# Altium integrated library Linear Technology Power Management Switching Regulator LTC1174-LTC3901.IntLib: 2647 symbols (part 87 of 364)
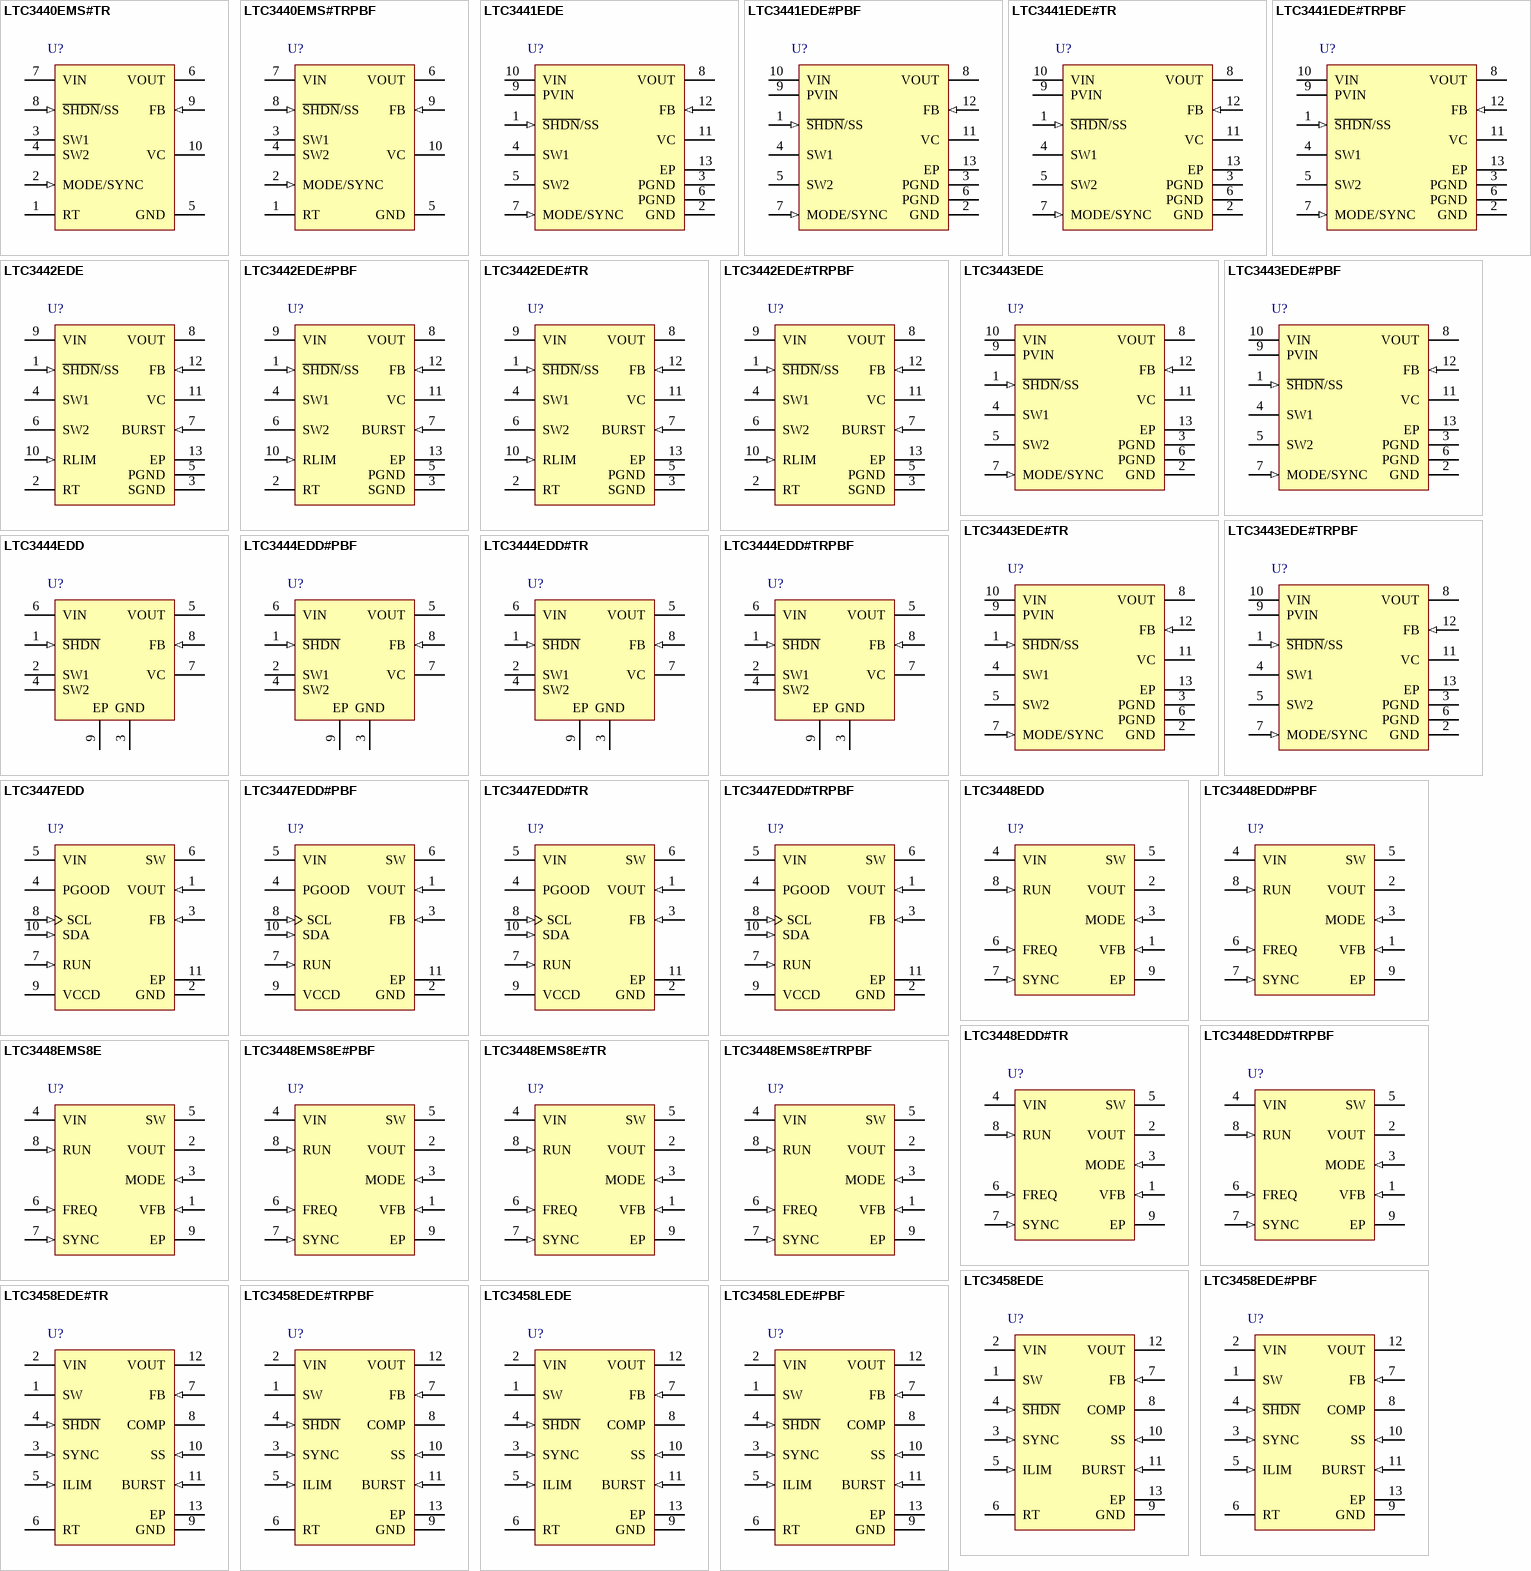
[diagram p259: symbols LTC3440EMS#TR to LTC3458LEDE#PBF]

## LTC3444EDD#TR
designator U?
Micropower Synchronous Buck-Boost DC/DC Converter for WCDMA Application, 8-pin SON (DD-8), -40 to 85 degC, Tape and Reel; Manufacturer: Linear Technology; PartNumber: LTC3444EDD#TR; Number of Outputs: 1; DatasheetVersion: Rev. B; PackageVersion: Jun-10; PackageReference: DD-8; PackageDescription: 8-Pin Plastic DFN, Body 3 x 3 mm, Pitch 0.5 mm; Packing: Tape and Reel; RoHS: FALSE; Mounting Technology: Surface Mount; Code_JEDEC: MO-229; ComponentLink1Description: Manufacturer URL; ComponentLink1URL: http://www.linear.com/; ComponentLink2Description: Datasheet; ComponentLink2URL: http://cds.linear.com/docs/en/datasheet/3444fb.pdf; ComponentLink3Description: Package Specification; ComponentLink3URL: http://cds.linear.com/docs/en/packaging/DFN_8_05-08-1698.pdf
footprint LT-DD-8_V (SON, 8-Leads, Body 3x3mm, Pitch 0.5mm, Thermal Pad 1.65x2.38 mm)
pins: 1 ~{SHDN} (in) "Shutdown Function. A logic low input shuts down the IC. A logic high input enables the IC and starts the internal soft-start function by limiting the rise time of the internal PWM command.", 2 SW1 "Switch Pin Where the Internal Switches A and B are Connected. Connect inductor from SW1 to SW2. An optional Schottky diode can be connected from ground to SW1 for a moderate efficiency improvement. Minimize trace length to (See Datasheet)", 3 GND (power) "Ground Pin for the IC.", 4 SW2 "Switch Pin Where the Internal Switches C and D are Connected. An optional Schottky diode can be connected from SW2 to VOUT for a moderate efficiency improvement. Minimize trace length to keep EMI down.", 5 VOUT (power) "Output of the Synchronous Rectifier. A filter capacitor is placed from VOUT to GND. A ceramic bypass capacitor is recommended as close to the VOUT and GND pins as possible.", 6 VIN (power) "Input Supply Pin. Internal VCC for the IC. A 4.7uF ceramic capacitor is recommended as close to VIN and GND as possible.", 7 VC "Error Amp Output. Pull VC to ground to select internal loop compensation. External compensation may be connected from VC to FB. Internal compensation will be disabled if VC is tied to an external compensation network.", 8 FB (in) "Feedback Pin. Connect resistive divider tap here. The output voltage can be adjusted from 0.5V to 5V. The feedback reference voltage is typically 1.22V.", 9 EP (power) "Solder to Board GND."

## LTC3444EDD#TRPBF
designator U?
Micropower Synchronous Buck-Boost DC/DC Converter for WCDMA Application, 8-pin SON (DD-8), -40 to 85 degC, Pb-Free, Tape and Reel; Manufacturer: Linear Technology; PartNumber: LTC3444EDD#TRPBF; Number of Outputs: 1; DatasheetVersion: Rev. B; PackageVersion: Jun-10; PackageReference: DD-8; PackageDescription: 8-Pin Plastic DFN, Body 3 x 3 mm, Pitch 0.5 mm; Supplier 1: Digi-Key; Supplier Part Number 1: LTC3444EDD#TRPBF-ND; Packing: Tape and Reel; RoHS: TRUE; Mounting Technology: Surface Mount; Code_JEDEC: MO-229; ComponentLink1Description: Manufacturer URL; ComponentLink1URL: http://www.linear.com/; ComponentLink2Description: Datasheet; ComponentLink2URL: http://cds.linear.com/docs/en/datasheet/3444fb.pdf; ComponentLink3Description: Package Specification; ComponentLink3URL: http://cds.linear.com/docs/en/packaging/DFN_8_05-08-1698.pdf
footprint LT-DD-8_V (SON, 8-Leads, Body 3x3mm, Pitch 0.5mm, Thermal Pad 1.65x2.38 mm)
pins: 1 ~{SHDN} (in) "Shutdown Function. A logic low input shuts down the IC. A logic high input enables the IC and starts the internal soft-start function by limiting the rise time of the internal PWM command.", 2 SW1 "Switch Pin Where the Internal Switches A and B are Connected. Connect inductor from SW1 to SW2. An optional Schottky diode can be connected from ground to SW1 for a moderate efficiency improvement. Minimize trace length to (See Datasheet)", 3 GND (power) "Ground Pin for the IC.", 4 SW2 "Switch Pin Where the Internal Switches C and D are Connected. An optional Schottky diode can be connected from SW2 to VOUT for a moderate efficiency improvement. Minimize trace length to keep EMI down.", 5 VOUT (power) "Output of the Synchronous Rectifier. A filter capacitor is placed from VOUT to GND. A ceramic bypass capacitor is recommended as close to the VOUT and GND pins as possible.", 6 VIN (power) "Input Supply Pin. Internal VCC for the IC. A 4.7uF ceramic capacitor is recommended as close to VIN and GND as possible.", 7 VC "Error Amp Output. Pull VC to ground to select internal loop compensation. External compensation may be connected from VC to FB. Internal compensation will be disabled if VC is tied to an external compensation network.", 8 FB (in) "Feedback Pin. Connect resistive divider tap here. The output voltage can be adjusted from 0.5V to 5V. The feedback reference voltage is typically 1.22V.", 9 EP (power) "Solder to Board GND."

## LTC3447EDD
designator U?
I2C Controllable Buck Regulator, 10-pin SON (DD-10), -40 to 85 degC; Manufacturer: Linear Technology; PartNumber: LTC3447EDD; Number of Outputs: 1; PackageVersion: Rev. C, 06/2010; PackageReference: DD-10; PackageDescription: 10-Pin Plastic DFN, Body 3 x 3 mm, Pitch 0.5 mm; Supplier 1: Digi-Key; Supplier Part Number 1: LTC3447EDD-ND; RoHS: FALSE; Mounting Technology: Surface Mount; Code_JEDEC: MO-229; ComponentLink1Description: Manufacturer URL; ComponentLink1URL: http://www.linear.com/; ComponentLink2Description: Datasheet; ComponentLink2URL: http://cds.linear.com/docs/en/datasheet/3447f.pdf; ComponentLink3Description: Package Specification; ComponentLink3URL: http://cds.linear.com/docs/en/packaging/DFN_10_05-08-1699.pdf
footprint LT-DD-10_V (SON, 10-Leads, Body 3x3mm, Pitch 0.5mm, Thermal Pad 2.38x1.65mm)
pins: 1 VOUT (in) "Output Voltage Sensing Pin. An internal resistor divider provides the divided down feedback reference for comparison.", 2 GND (power) "Ground for all Circuits Excluding the Internal Synchronous Power NFET.", 3 FB (in) "Feedback Sensing Pin for the Optional External Feedback Resistors. Must be tied to VIN if there are no external feedback resistors.", 4 PGOOD (oc) "Fault Report. Open drain driver sinks current when VOUT is 10% out of tolerance. Blanking during DAC changes can be enabled via the I2C.", 5 VIN (power) "Main Supply Pin. Must be closely decoupled to GND with a 2.2uF or greater capacitor.", 6 SW (power) "Switch Node Connector to Inductor. This pin connects the drains of the internal main and synchronous power MOSFET switches.", 7 RUN (in) "Run Control Input. Forcing pin above 1.5V enables the part. Forcing the pin below 0.3V shuts down the device. In shutdown, all functions are disabled drawing <1uA of supply current. Do not leave the RUN pin floating.", 8 SCL (in) "I2C Clock Input.", 9 VCCD (power) "I2C Power Rail.", 10 SDA (in) "I2C Data Input.", 11 EP (power) "Ground. Must be connected to PCB ground for electrical contact and optimized thermal performance."

## LTC3447EDD#PBF
designator U?
I2C Controllable Buck Regulator, 10-pin SON (DD-10), -40 to 85 degC, Pb-Free; Manufacturer: Linear Technology; PartNumber: LTC3447EDD#PBF; Number of Outputs: 1; PackageVersion: Rev. C, 06/2010; PackageReference: DD-10; PackageDescription: 10-Pin Plastic DFN, Body 3 x 3 mm, Pitch 0.5 mm; Supplier 1: Digi-Key; Supplier Part Number 1: LTC3447EDD#PBF-ND; Supplier 2: Farnell; Supplier Part Number 2: 2295067; Supplier 3: Newark; Supplier Part Number 3: 56M7823; RoHS: TRUE; Mounting Technology: Surface Mount; Code_JEDEC: MO-229; ComponentLink1Description: Manufacturer URL; ComponentLink1URL: http://www.linear.com/; ComponentLink2Description: Datasheet; ComponentLink2URL: http://cds.linear.com/docs/en/datasheet/3447f.pdf; ComponentLink3Description: Package Specification; ComponentLink3URL: http://cds.linear.com/docs/en/packaging/DFN_10_05-08-1699.pdf
footprint LT-DD-10_V (SON, 10-Leads, Body 3x3mm, Pitch 0.5mm, Thermal Pad 2.38x1.65mm)
pins: 1 VOUT (in) "Output Voltage Sensing Pin. An internal resistor divider provides the divided down feedback reference for comparison.", 2 GND (power) "Ground for all Circuits Excluding the Internal Synchronous Power NFET.", 3 FB (in) "Feedback Sensing Pin for the Optional External Feedback Resistors. Must be tied to VIN if there are no external feedback resistors.", 4 PGOOD (oc) "Fault Report. Open drain driver sinks current when VOUT is 10% out of tolerance. Blanking during DAC changes can be enabled via the I2C.", 5 VIN (power) "Main Supply Pin. Must be closely decoupled to GND with a 2.2uF or greater capacitor.", 6 SW (power) "Switch Node Connector to Inductor. This pin connects the drains of the internal main and synchronous power MOSFET switches.", 7 RUN (in) "Run Control Input. Forcing pin above 1.5V enables the part. Forcing the pin below 0.3V shuts down the device. In shutdown, all functions are disabled drawing <1uA of supply current. Do not leave the RUN pin floating.", 8 SCL (in) "I2C Clock Input.", 9 VCCD (power) "I2C Power Rail.", 10 SDA (in) "I2C Data Input.", 11 EP (power) "Ground. Must be connected to PCB ground for electrical contact and optimized thermal performance."

## LTC3447EDD#TR
designator U?
I2C Controllable Buck Regulator, 10-pin SON (DD-10), -40 to 85 degC, Tape and Reel; Manufacturer: Linear Technology; PartNumber: LTC3447EDD#TR; Number of Outputs: 1; PackageVersion: Rev. C, 06/2010; PackageReference: DD-10; PackageDescription: 10-Pin Plastic DFN, Body 3 x 3 mm, Pitch 0.5 mm; Packing: Tape and Reel; RoHS: FALSE; Mounting Technology: Surface Mount; Code_JEDEC: MO-229; ComponentLink1Description: Manufacturer URL; ComponentLink1URL: http://www.linear.com/; ComponentLink2Description: Datasheet; ComponentLink2URL: http://cds.linear.com/docs/en/datasheet/3447f.pdf; ComponentLink3Description: Package Specification; ComponentLink3URL: http://cds.linear.com/docs/en/packaging/DFN_10_05-08-1699.pdf
footprint LT-DD-10_V (SON, 10-Leads, Body 3x3mm, Pitch 0.5mm, Thermal Pad 2.38x1.65mm)
pins: 1 VOUT (in) "Output Voltage Sensing Pin. An internal resistor divider provides the divided down feedback reference for comparison.", 2 GND (power) "Ground for all Circuits Excluding the Internal Synchronous Power NFET.", 3 FB (in) "Feedback Sensing Pin for the Optional External Feedback Resistors. Must be tied to VIN if there are no external feedback resistors.", 4 PGOOD (oc) "Fault Report. Open drain driver sinks current when VOUT is 10% out of tolerance. Blanking during DAC changes can be enabled via the I2C.", 5 VIN (power) "Main Supply Pin. Must be closely decoupled to GND with a 2.2uF or greater capacitor.", 6 SW (power) "Switch Node Connector to Inductor. This pin connects the drains of the internal main and synchronous power MOSFET switches.", 7 RUN (in) "Run Control Input. Forcing pin above 1.5V enables the part. Forcing the pin below 0.3V shuts down the device. In shutdown, all functions are disabled drawing <1uA of supply current. Do not leave the RUN pin floating.", 8 SCL (in) "I2C Clock Input.", 9 VCCD (power) "I2C Power Rail.", 10 SDA (in) "I2C Data Input.", 11 EP (power) "Ground. Must be connected to PCB ground for electrical contact and optimized thermal performance."

## LTC3447EDD#TRPBF
designator U?
I2C Controllable Buck Regulator, 10-pin SON (DD-10), -40 to 85 degC, Pb-Free, Tape and Reel; Manufacturer: Linear Technology; PartNumber: LTC3447EDD#TRPBF; Number of Outputs: 1; PackageVersion: Rev. C, 06/2010; PackageReference: DD-10; PackageDescription: 10-Pin Plastic DFN, Body 3 x 3 mm, Pitch 0.5 mm; Supplier 1: Digi-Key; Supplier Part Number 1: LTC3447EDD#TRPBF-ND; Packing: Tape and Reel; RoHS: TRUE; Mounting Technology: Surface Mount; Code_JEDEC: MO-229; ComponentLink1Description: Manufacturer URL; ComponentLink1URL: http://www.linear.com/; ComponentLink2Description: Datasheet; ComponentLink2URL: http://cds.linear.com/docs/en/datasheet/3447f.pdf; ComponentLink3Description: Package Specification; ComponentLink3URL: http://cds.linear.com/docs/en/packaging/DFN_10_05-08-1699.pdf
footprint LT-DD-10_V (SON, 10-Leads, Body 3x3mm, Pitch 0.5mm, Thermal Pad 2.38x1.65mm)
pins: 1 VOUT (in) "Output Voltage Sensing Pin. An internal resistor divider provides the divided down feedback reference for comparison.", 2 GND (power) "Ground for all Circuits Excluding the Internal Synchronous Power NFET.", 3 FB (in) "Feedback Sensing Pin for the Optional External Feedback Resistors. Must be tied to VIN if there are no external feedback resistors.", 4 PGOOD (oc) "Fault Report. Open drain driver sinks current when VOUT is 10% out of tolerance. Blanking during DAC changes can be enabled via the I2C.", 5 VIN (power) "Main Supply Pin. Must be closely decoupled to GND with a 2.2uF or greater capacitor.", 6 SW (power) "Switch Node Connector to Inductor. This pin connects the drains of the internal main and synchronous power MOSFET switches.", 7 RUN (in) "Run Control Input. Forcing pin above 1.5V enables the part. Forcing the pin below 0.3V shuts down the device. In shutdown, all functions are disabled drawing <1uA of supply current. Do not leave the RUN pin floating.", 8 SCL (in) "I2C Clock Input.", 9 VCCD (power) "I2C Power Rail.", 10 SDA (in) "I2C Data Input.", 11 EP (power) "Ground. Must be connected to PCB ground for electrical contact and optimized thermal performance."

## LTC3448EDD
designator U?
1.5 MHz / 2.25 MHz, 600 mA Synchronous Step-Down Regulator with LDO Mode, 8-pin SON (DD-8), -40 to 85 degC; Manufacturer: Linear Technology; PartNumber: LTC3448EDD; Number of Outputs: 1; PackageVersion: Jun-10; PackageReference: DD-8; PackageDescription: 8-Pin Plastic DFN, Body 3 x 3 mm, Pitch 0.5 mm; Supplier 1: Digi-Key; Supplier Part Number 1: LTC3448EDD-ND; RoHS: FALSE; Mounting Technology: Surface Mount; Code_JEDEC: MO-229; ComponentLink1Description: Manufacturer URL; ComponentLink1URL: http://www.linear.com/; ComponentLink2Description: Datasheet; ComponentLink2URL: http://cds.linear.com/docs/en/datasheet/3448f.pdf; ComponentLink3Description: Package Specification; ComponentLink3URL: http://cds.linear.com/docs/en/packaging/DFN_8_05-08-1698.pdf
footprint LT-DD-8_V (SON, 8-Leads, Body 3x3mm, Pitch 0.5mm, Thermal Pad 1.65x2.38 mm)
pins: 1 VFB (in) "Feedback Pin. This pin receives the feedback voltage from an external resistive divider across the output.", 2 VOUT (power) "Output Pin. This pin connects to an external resistor divider and the linear regulator output. Connect externally to the inductor and the output capacitor. The internal linear regulator will supply current up to the (See Datasheet)", 3 MODE (in) "Linear Regulator Control. Grounding this pin turns off the linear regulator. Setting this pin to VIN turns on the linear regulator regardless of the load current. Tying this pin midrange (i.e., to VOUT) will place the linear (See Datasheet)", 4 VIN (power) "Main Supply Pin. This pin must be closely decoupled to GND with a 2.2uF or greater ceramic capacitor.", 5 SW (power) "Switch Node Connection to Inductor. This pin connects to the drains of the internal main and synchronous power MOSFET switches.", 6 FREQ (in) "Frequency Select. Switching frequency is set to 1.5MHz when FREQ = 0V and to 2.25MHz when FREQ = VIN. Do not float this pin.", 7 SYNC (in) "External Synchronization Pin. The oscillation frequency can be synchronized to an external oscillator applied to this pin. For external frequencies above 2.2MHz, pull FREQ high.", 8 RUN (in) "Run Control Input. Forcing this pin above 1.5V enables the part. Forcing this pin below 0.3V shuts down the device. In shutdown, all functions are disabled drawing <1uA supply current. Do not leave RUN floating.", 9 EP (power) "Ground. This pin must be soldered to PCB."